# Altium footprint library FB_0402.PcbLib: 1 footprints
Each footprint in its own frame and in the unit in brackets; x right, y up, seen from the top. Pads: shape width x height; smd on the part's side, far side on the other; paste and mask are expansions set on the pad; w line width, h text height; cw(c..) or ccw(c..) is an arc to the next point about the centre after c.
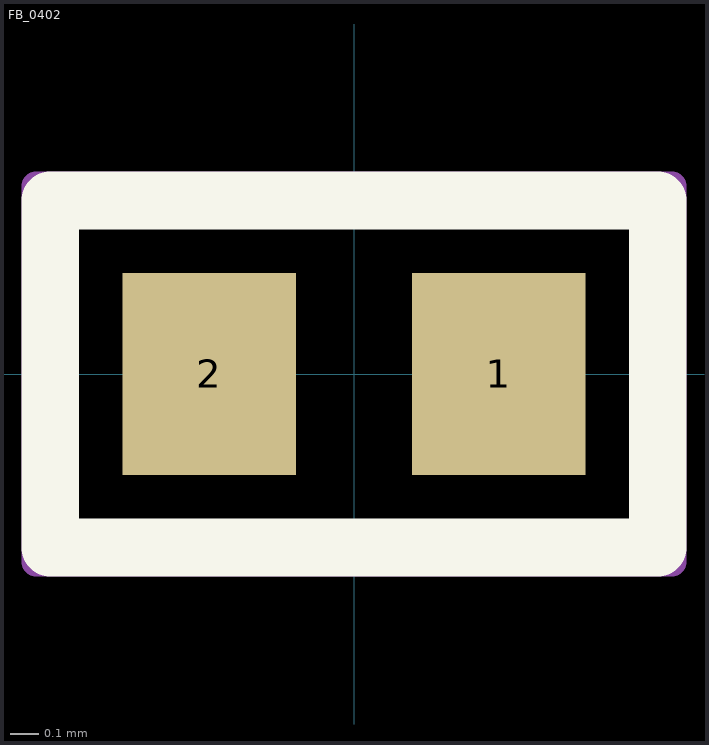
[diagram p0: the footprint, top view; thin cyan lines are the x and y axes]

## FB_0402 [mm]
pads (2):
  rect 0.6x0.7 smd: 1(0.5,0) 2(-0.5,0)
Top Overlay:
  lines w0.2: -1.05,-0.6 1.05,-0.6 1.05,0.6 -1.05,0.6 -1.05,-0.6
Top Courtyard:
  lines w0.1: -1.1,-0.65 -1.1,0.65 1.1,0.65 1.1,-0.65 -1.1,-0.65
3D body "742792796--3DModel-STEP-56544.STEP": height 0.25, standoff -0.25, extent -0.5,-0.25 0.5,0.25